# Altium schematic symbol library TPS630250RNCR.SchLib: 1 symbol
Pins are listed as number, name and electrical type; pins without a type are passive.

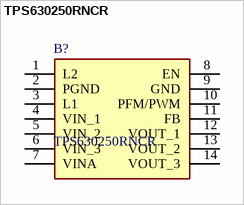
[diagram p0: symbol TPS630250RNCR]

## TPS630250RNCR
designator B?
Switching Voltage Regulators 4-A switch single-in ductor buck-boost c A 595-TPS630250RNCT; Manufacturer_Name: Texas Instruments; Geometry.Height: 1mm; Manufacturer_Part_Number: TPS630250RNCR; Mouser Part Number: 595-TPS630250RNCR; Mouser Price/Stock: https://www.mouser.co.uk/ProductDetail/Texas-Instruments/TPS630250RNCR?qs=G5PZsBocSXu6AhBK6FRPEQ%3D%3D; Arrow Part Number: TPS630250RNCR; Arrow Price/Stock: https://www.arrow.com/en/products/tps630250rncr/texas-instruments.html?utm_currency=USD&region=nac; Datasheet Link: https://www.ti.com/lit/ds/symlink/tps630252.pdf?ts=1777081971757&ref_url=https%253A%252F%252Fwww.mouser.com%252F
footprint TPS630250RNCR
pins: 1 L2, 2 PGND, 3 L1, 4 VIN_1, 5 VIN_2, 6 VIN_3, 7 VINA, 8 EN, 9 GND, 10 PFM/PWM, 11 FB, 12 VOUT_1, 13 VOUT_2, 14 VOUT_3